# Altium integrated library Miscellaneous.IntLib: 11 symbols
Pins are listed as number, name and electrical type; pins without a type are passive.

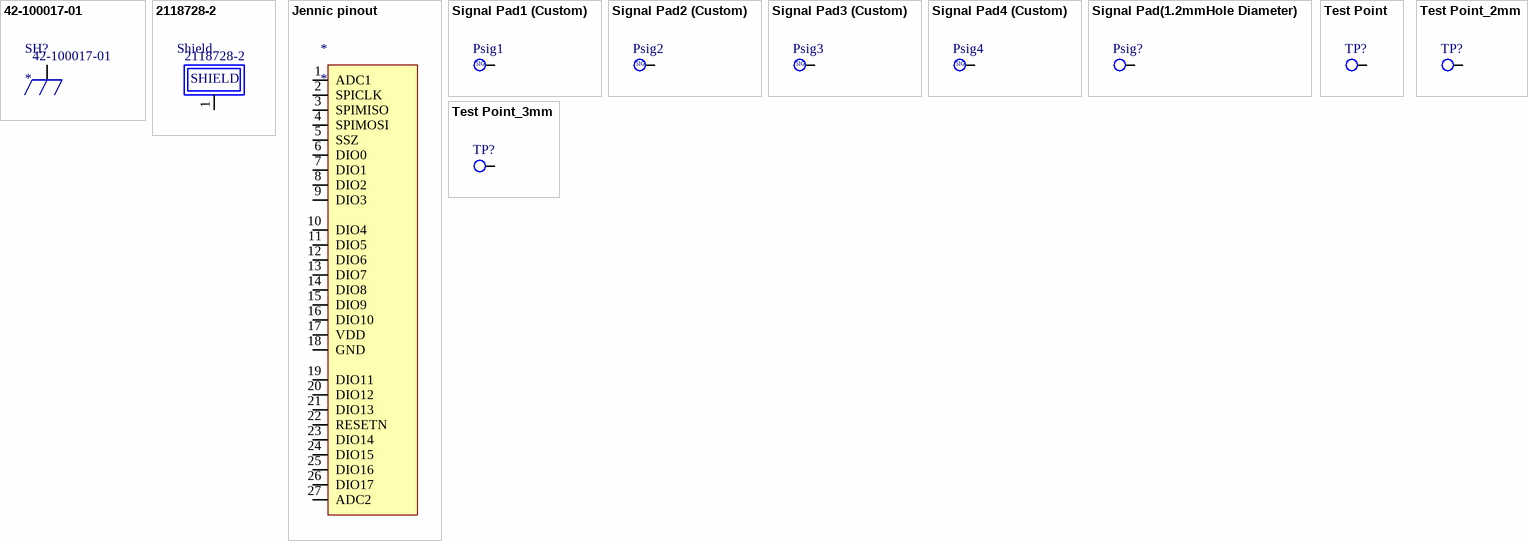
[diagram p0: symbols 42-100017-01 to Test Point_3mm]

## 42-100017-01
designator SH?  value 42-100017-01
Shield; MFT: TSC; APN: *; RATING: *; LOAD: *; TYPE: SMD; MPN: 42-100017-01
footprint 42-100017-01(Shield)
pins: 1

## 2118728-2
designator Shield  MPN: 2118728-2  (hidden comment: *)
STD SHIELD FRAME, CRS-29.36X18.5; MFT: TE Connectivity AMP Connectors
footprint 2118728-2
pins: 1 GND
text: SHIELD

## Jennic pinout
designator *
footprint JN516X PINOUT
pins: 1 ADC1, 2 SPICLK, 3 SPIMISO, 4 SPIMOSI, 5 SSZ, 6 DIO0, 7 DIO1, 8 DIO2, 9 DIO3, 10 DIO4, 11 DIO5, 12 DIO6, 13 DIO7, 14 DIO8, 15 DIO9, 16 DIO10, 17 VDD, 18 GND, 19 DIO11, 20 DIO12, 21 DIO13, 22 RESETN, 23 DIO14, 24 DIO15, 25 DIO16, 26 DIO17, 27 ADC2

## Signal Pad1 (Custom)
designator Psig1  (value not drawn)
Customed Electrical Connection
footprint Psig1
pins: 1
text: SIG

## Signal Pad2 (Custom)
designator Psig2  (value not drawn)
Customed Electrical Connection
footprint Psig2
pins: 2
text: SIG

## Signal Pad3 (Custom)
designator Psig3  (value not drawn)
Customed Electrical Connection
footprint Psig3
pins: 3
text: SIG

## Signal Pad4 (Custom)
designator Psig4  (value not drawn)
Customed Electrical Connection
footprint Psig4
pins: 4
text: SIG

## Signal Pad(1.2mmHole Diameter)
designator Psig?  (value not drawn)
Customed Electrical Connection
footprint 1.22mmHoleDia
pins: 1

## Test Point
designator TP?  (value not drawn)
Test Point 1.27mm
footprint Test Point 1.27mm
pins: 1

## Test Point_2mm
designator TP?  (value not drawn)
Test Point 2mm
footprint Test Point 2mm
pins: 1

## Test Point_3mm
designator TP?  (value not drawn)
Test Point 3mm
footprint Test Point 3mm
pins: 1